# EAGLE library part HD44780 (library IRK)
Generic HD44780 16x2 LCD With backlight
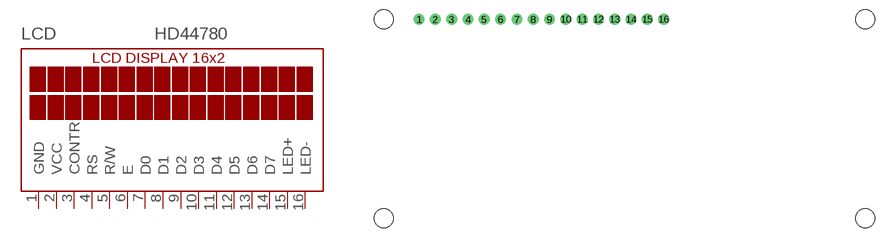
[diagram p1: symbol with the pads of LCD_16X2; footprint LCD_16X2]

Designator prefix LCD

## HD44780  [LCD_16X2]
1  GND  pwr
2  VCC  pwr
3  CONTR  in
4  RS  in
5  R/W  in
6  E  in
7  D0  in
8  D1  in
9  D2  in
10  D3  in
11  D4  in
12  D5  in
13  D6  in
14  D7  in
15  LED+  pas
16  LED-  pas

## Footprint LCD_16X2 (pad centres in mm)
Generic HD44780 LCD display 16x2 characters with background light
drill 1 pad 1.676: 1 -32,15.5; 2 -29.46,15.5; 3 -26.92,15.5; 4 -24.38,15.5; 5 -21.84,15.5; 6 -19.3,15.5; 7 -16.76,15.5; 8 -14.22,15.5; 9 -11.68,15.5; 10 -9.14,15.5; 11 -6.6,15.5; 12 -4.06,15.5; 13 -1.52,15.5; 14 1.02,15.5; 15 3.56,15.5; 16 6.1,15.5
hole 3 at -37.5,-15.5
hole 3 at 37.5,-15.5
hole 3 at -37.5,15.5
hole 3 at 37.5,15.5